# Altium schematic symbol library T8_devkit_PCB_1.SCHLIB: 83 symbols (part 1 of 2)
Pins are listed as number, name and electrical type; pins without a type are passive.

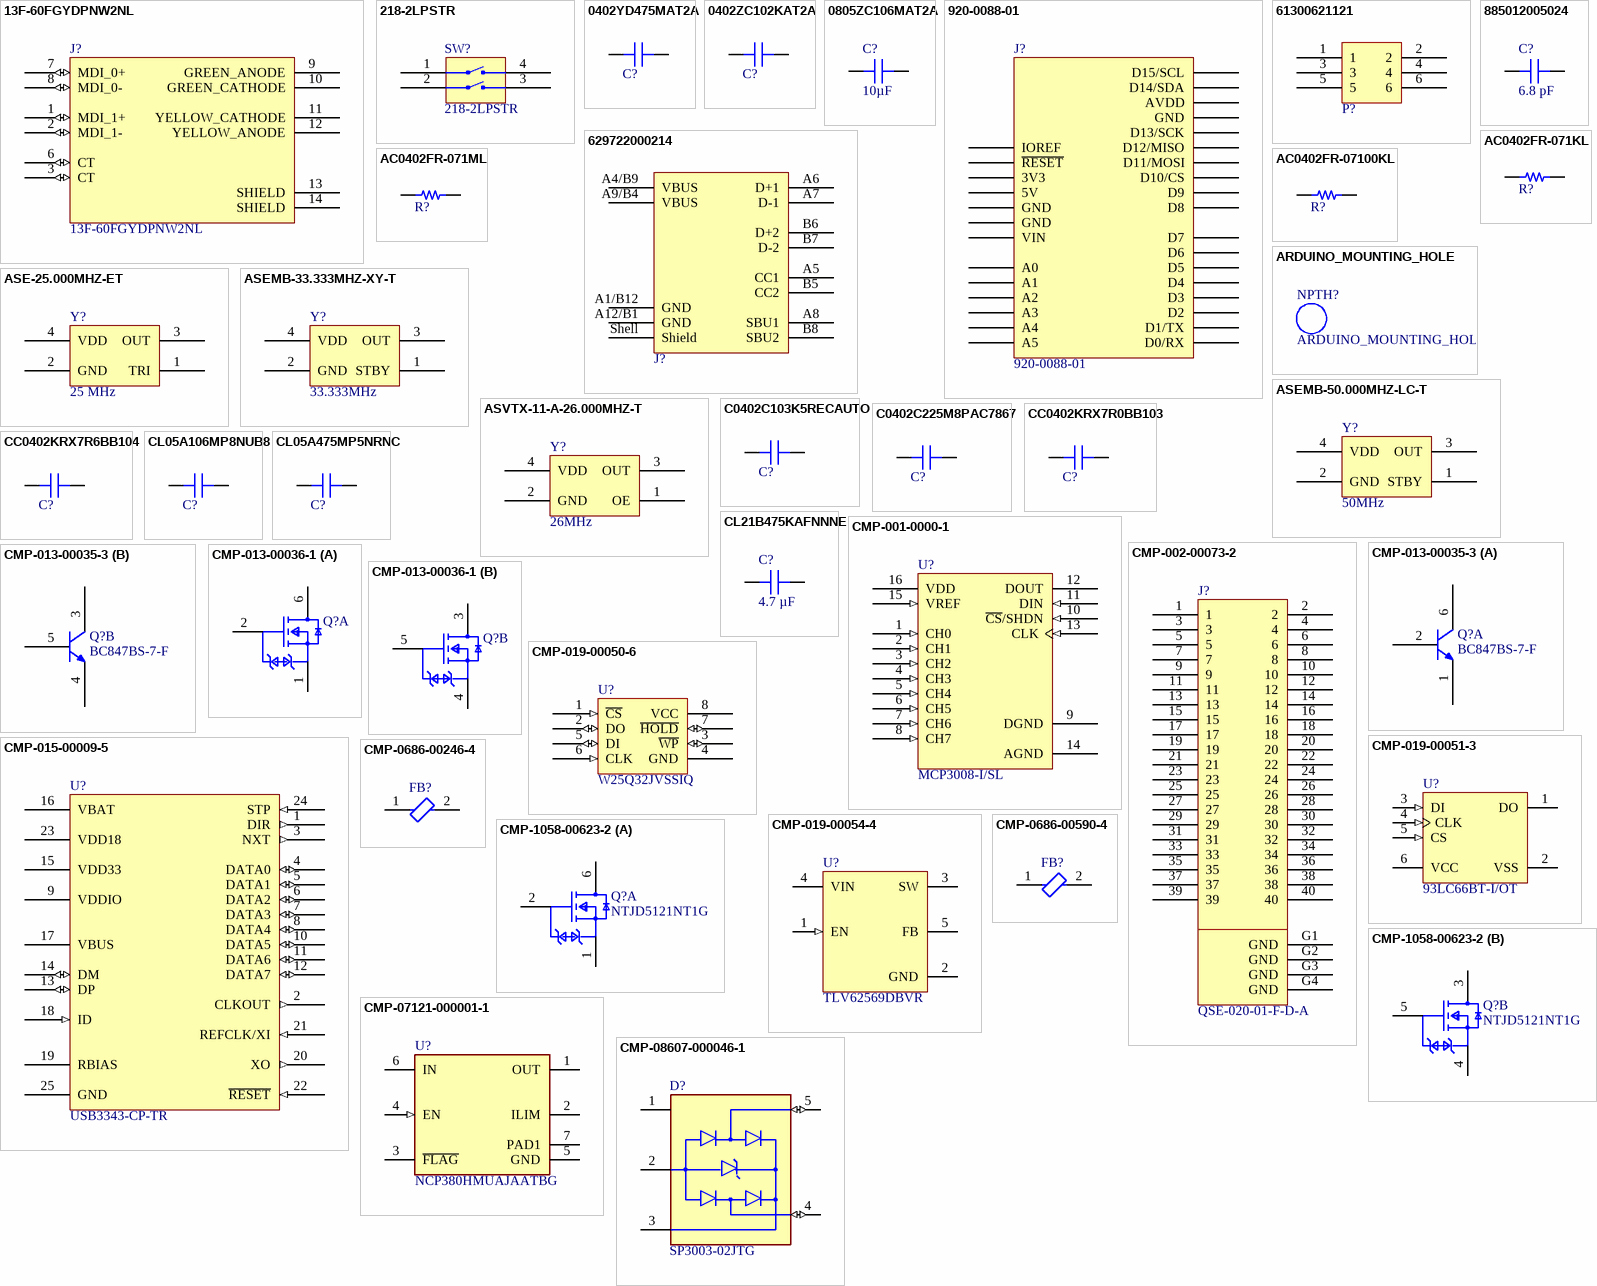
[diagram p0: symbols 13F-60FGYDPNW2NL to CMP-08607-000046-1]

## 13F-60FGYDPNW2NL
designator J?
RJ45 RJReceptacle 1 Internal oscillator included  WithLED Plugin  Ethernet Connectors/Modular Connectors (RJ45 RJ11) ROHS; Manufacturer: Shanghai YDS Tech; Number of Ports: 1; Manufacturer Part Number: 13F-60FGYDPNW2NL; LCSC Part Number: C115955; Package: Plugin; ComponentLink1Description: Datasheet; ComponentLink1URL: https://datasheet.lcsc.com/lcsc/1811141132_Shanghai-YDS-Tech-13F-60FGYDPNW2NL_C115955.pdf; ComponentLink2Description: LCSC Link; ComponentLink2URL: https://www.lcsc.com/product-detail/Ethernet-Connectors-Modular-Connectors-RJ45-RJ11_Shanghai-YDS-Tech-13F-60FGYDPNW2NL_C115955.html; USOC Codes: RJ45; Connector Type: RJReceptacle; Ratings: -; LED: WithLED
footprint RJ4516.26X21.59X13.84 (RJ45 ETHERNET CONNECTOR 16.26X21.59X13.84)
pins: 1 MDI_1+ (io), 2 MDI_1- (io), 3 CT (io), 6 CT (io), 7 MDI_0+ (io), 8 MDI_0- (io), 9 GREEN_ANODE (power), 10 GREEN_CATHODE (power), 11 YELLOW_CATHODE (power), 12 YELLOW_ANODE (power), 13 SHIELD, 14 SHIELD

## 218-2LPSTR
designator SW?
SWITCH SLIDE DIP SPST 25MA 24V; Manufacturer: CTS Electrocomponents; Actuator Level: Flush, Recessed; Actuator Type: Slide (Standard); Number of Positions: 2; Pitch: 0.050" (1.27mm), Half; Voltage Rating: 24VDC; Washable: Yes; Part Number: 218-2LPSTR; Circuit: SPST; ComponentLink1Description: Datasheet; ComponentLink1URL: https://www.ctscorp.com/wp-content/uploads/218.pdf; ComponentLink2Description: DigiKey Link; ComponentLink2URL: http://digikey.com/product-detail/en/cts-electrocomponents/218-2LPSTR/CT3108CT-ND/5875762; Contact Finish: Gold; Contact Material: Beryllium Copper; Current Rating (Amps): 25mA; Features: Epoxy Sealed Terminals, Tape Seal; Height Above Board: 0.104" (2.65mm); LastUpdated: 04/01/2020 18:51:31; Lifecycle Status: Active; Minimum Order: 1; Mounting Type: Surface Mount; Operating Temperature: -55°C ~ 85°C; Packaging: ReReel; PartId: 8; Part Status: Active; Price: 0.00; Series: 218; Supplier 1: DigiKey; Supplier Part Number 1: CT3108CT-ND; Termination Style: Gull Wing
footprint CTS 218-2LPJ
pins: 1 GND, 2 GND, 3 GND, 4 GND

## 0402YD475MAT2A
designator C?, comment 4.7µF  (value not drawn)
CAP CER 4.7UF 16V X5R 0402; Part Number: 0402YD475MAT2A; manufacturer: AVX Corporation; Tolerance: ±20%; Value: 4.7µF; Applications: General Purpose; Capacitance: 4.7µF; componentlink1description: Datasheet; componentlink1url: http://datasheets.avx.com/cx5r.pdf; componentlink2description: DigiKey Link; componentlink2url: http://digikey.com/product-detail/en/avx-corporation/0402YD475MAT2A/478-10788-1-ND/7536324; Device Package: 0402 (1005 Metric); lastupdated: 08/02/2022 12:26:39; Lifecycle Status: Active; Minimum Order: 1; Mounting Type: Surface Mount, MLCC; Operating Temperature: -55°C ~ 85°C; Package / Case: 0402 (1005 Metric); packaging: TapeAndReel; partid: 12460; Part Status: Active; price: 0.06; series: -; Size / Dimension: 0.039" L x 0.020" W (1.00mm x 0.50mm); Supplier 1: DigiKey; Supplier Part Number 1: 478-10788-1-ND; Temperature Coefficient: X5R; Thickness (Max): 0.028" (0.71mm); Voltage - Rated: 16V
footprint CAP 0402_1005
pins: 1, 2

## 0402ZC102KAT2A
designator C?, comment 1000pF  (value not drawn)
CAP CER 1000PF 10V X7R 0402; Part Number: 0402ZC102KAT2A; manufacturer: AVX Corporation; Tolerance: ±10%; Value: 1000pF; Applications: General Purpose; Capacitance: 1000pF; componentlink1description: Datasheet; componentlink1url: http://datasheets.avx.com/X7RDielectric.pdf; componentlink2description: DigiKey Link; componentlink2url: http://digikey.com/product-detail/en/avx-corporation/0402ZC102KAT2A/478-12663-1-ND/9949195; Device Package: 0402 (1005 Metric); lastupdated: 08/02/2022 12:26:49; Lifecycle Status: Active; Minimum Order: 1; Mounting Type: Surface Mount, MLCC; Operating Temperature: -55°C ~ 125°C; Package / Case: 0402 (1005 Metric); packaging: TapeAndReel; partid: 7830; Part Status: Active; price: 0.01; series: -; Size / Dimension: 0.039" L x 0.020" W (1.00mm x 0.50mm); Supplier 1: DigiKey; Supplier Part Number 1: 478-12663-1-ND; Temperature Coefficient: X7R; Thickness (Max): 0.022" (0.56mm); Voltage - Rated: 10V
footprint CAP 0402_1005
pins: 1, 2

## 0805ZC106MAT2A
designator C?, comment 10µF
CAP CER 10UF 10V X7R 0805; Part Number: 0805ZC106MAT2A; manufacturer: AVX Corporation; Tolerance: ±20%; Value: 10µF; Applications: General Purpose; Capacitance: 10µF; componentlink1description: Datasheet; componentlink1url: http://datasheets.avx.com/X7RDielectric.pdf; componentlink2description: DigiKey Link; componentlink2url: http://digikey.com/product-detail/en/avx-corporation/0805ZC106MAT2A/478-11397-1-ND/8019148; Device Package: 0805 (2012 Metric); lastupdated: 02/09/2020 01:04:12; Lifecycle Status: Active; Minimum Order: 1; Mounting Type: Surface Mount, MLCC; Operating Temperature: -55°C ~ 125°C; Package / Case: 0805 (2012 Metric); packaging: CutTape; partid: 16649; Part Status: Active; price: 0.85; series: -; Size / Dimension: 0.079" L x 0.049" W (2.00mm x 1.25mm); Supplier 1: DigiKey; Supplier Part Number 1: 478-11397-1-ND; Temperature Coefficient: X7R; Thickness (Max): 0.060" (1.52mm); Voltage - Rated: 10V
footprint CAP 0805_2012
pins: 1, 2

## 920-0088-01
designator J?
CONN HDR 8/10P 0.1 GOLD PCB 6PC; Manufacturer: Schmartboard, Inc.; Connector Type: Header; Contact Length - Post: 0.413" (10.50mm); Number of Positions: 6, 8, 10; Number of Positions Loaded: All; Pitch - Mating: 0.100" (2.54mm); Style: Board to Board; Part Number: 920-0088-01; ComponentLink1Description: Datasheet; ComponentLink1URL: http://schmartboard.com/content/Brochures/920-0088-01.pdf; ComponentLink2Description: DigiKey Link; ComponentLink2URL: http://digikey.com/product-detail/en/schmartboard-inc/920-0088-01/1988-1036-ND/9559319; Contact Finish - Mating: Gold; Contact Finish - Post: Gold; Contact Type: Female Socket; Fastening Type: Push-Pull; Insulation Color: Black; Insulation Height: 0.335" (8.51mm); LastUpdated: 31/01/2020 20:49:58; Lifecycle Status: Active; Minimum Order: 1; Mounting Type: Through Hole; Number of Rows: 1; Packaging: Bulk; Part Status: Active; Price: 5.00; Series: -; Supplier 1: DigiKey; Supplier Part Number 1: 1988-1036-ND; Termination: Solder
footprint SCHMARTBOARD - 920-0088-01
pins: 2 IOREF, 3 ~{RESET}, 4 3V3, 5 5V, 6 GND, 7 GND, 8 VIN, 9 A0, 10 A1, 11 A2, 12 A3, 13 A4, 14 A5, 15 D0/RX, 16 D1/TX, 17 D2, 18 D3, 19 D4, 20 D5, 21 D6, 22 D7, 23 D8, 24 D9, 25 D10/CS, 26 D11/MOSI, 27 D12/MISO, 28 D13/SCK, 29 GND, 30 AVDD, 31 D14/SDA, 32 D15/SCL

## 61300621121
designator P?  (value not drawn)
WR-PHD Pin Header, THT, Vertical, pitch 2.54mm, 2 Row, 6P; Manufacturer: Wurth Elektronik; Contact Resistance: 20mΩ; Rated Current: 3A; Working Voltage: 250V; Withstanding Voltage: 500V; ComponentLink1Description: Website Link; ComponentLink1URL: https://www.we-online.com/redexpert/article/61300621121?ad; ComponentLink2Description: Datasheet Link; ComponentLink2URL: https://www.we-online.com/redexpert/spec/61300621121?ad; Manufacturer Part Number: 61300621121; Category: Board-to-Board Connectors; Match Code: WR-PHD; Mount: Through Hole; Operating Temperature Max: 105°C; Operating Temperature Min: -40°C; Packaging: Bag; Gender: Pin Header; Number of Pins: 6; Number of Rows: 2; Orientation: Vertical; Pitch: 2.54mm
footprint 61300621121
pins: 1, 2, 3, 4, 5, 6

## 629722000214
designator J?  (value not drawn)
WR-USB 2.0 Type C, Receptacle, Horizontal, SMT; Manufacturer: Wurth Elektronik; Interface Type: Type C; Number of Ports: 1; Rated Current: 5A; Working Voltage: 20VAC; ComponentLink1Description: Website Link; ComponentLink1URL: https://www.we-online.com/redexpert/article/629722000214?ad; ComponentLink2Description: Datasheet Link; ComponentLink2URL: https://www.we-online.com/redexpert/spec/629722000214?ad; Manufacturer Part Number: 629722000214; Category: Input/Output Connectors; Match Code: WR-USB; Mount: Surface Mount; Operating Temperature Max: 85°C; Operating Temperature Min: -40°C; Packaging: Tape and Reel; Application: USB 2.0; Gender: Receptacle; Number of Pins: 16; Orientation: Horizontal
footprint 629722000214
pins: A1/B12 GND, A4/B9 VBUS, A5 CC1, A6 D+1, A7 D-1, A8 SBU1, A9/B4 VBUS, A12/B1 GND, B5 CC2, B6 D+2, B7 D-2, B8 SBU2, Shell Shield

## 885012005024
designator C?, comment 6.8 pF
CAP CER 6.8PF 16V C0G/NP0 0402; Part Number: 885012005024; manufacturer: Würth Elektronik; Temperature Coefficient: C0G, NP0; Tolerance: ±0.5pF; Value: 6.8 pF; Applications: General Purpose; Capacitance: 6.8 pF; componentlink1description: Datasheet; componentlink1url: https://katalog.we-online.de/pbs/datasheet/885012005024.pdf; componentlink2description: DigiKey Link; componentlink2url: https://www.digikey.com/en/products/detail/würth-elektronik/885012005024/5453295; Device Package: 0402 (1005 Metric); lastupdated: 19/09/2022 12:57:16; Lifecycle Status: Active; Minimum Order: 1; Mounting Type: Surface Mount, MLCC; Operating Temperature: -55°C ~ 125°C; Package / Case: 0402 (1005 Metric); packaging: TapeAndReel; partid: 8046; Part Status: Active; price: 0.01; series: WCAP-CSGP; Size / Dimension: 0.039" L x 0.020" W (1.00mm x 0.50mm); Supplier 1: DigiKey; Supplier Part Number 1: 732-7440-1-ND; Thickness (Max): 0.022" (0.55mm); Voltage - Rated: 16V
footprint CAP 0402_1005
pins: 1, 2

## AC0402FR-071KL
designator R?, comment 1 kOhms  (value not drawn)
RES SMD 1K OHM 1% 1/16W 0402; Part Number: AC0402FR-071KL; Manufacturer: Yageo; Power (Watts): 0.063W, 1/16W; Temperature Coefficient: ±100ppm/°C; Value: 1 kOhms; ComponentLink1Description: Datasheet; ComponentLink1URL: https://www.yageo.com/upload/media/product/productsearch/datasheet/rchip/PYu-AC_51_RoHS_L_7.pdf; ComponentLink2Description: DigiKey Link; ComponentLink2URL: https://www.digikey.com/en/products/detail/yageo/AC0402FR-071KL/2827801; Composition: Thick Film; Device Package: 0402 (1005 Metric); Features: Automotive AEC-Q200, Moisture Resistant; Height - Seated (Max): 0.015" (0.37mm); LastUpdated: 19/09/2022 13:14:31; Lifecycle Status: Active; Minimum Order: 1; Number of Terminations: 2; Operating Temperature: -55°C ~ 155°C; Package / Case: 0402 (1005 Metric); Packaging: CutTape; PartId: 12037; Part Status: Active; Price: 0.01; Ratings: AEC-Q200; Resistance: 1 kOhms; Series: AC; Size / Dimension: 0.039" L x 0.020" W (1.00mm x 0.50mm); Supplier 1: DigiKey; Supplier Part Number 1: 311-1KLBCT-ND; Supplier Device Package: 0402; Tolerance: ±1%
footprint RES 0402_1005
pins: 1, 2

## AC0402FR-071ML
designator R?, comment 1 MOhms  (value not drawn)
RES SMD 1M OHM 1% 1/16W 0402; Part Number: AC0402FR-071ML; Manufacturer: Yageo; Power (Watts): 0.063W, 1/16W; Temperature Coefficient: ±100ppm/°C; Value: 1 MOhms; ComponentLink1Description: Datasheet; ComponentLink1URL: https://www.yageo.com/upload/media/product/productsearch/datasheet/rchip/PYu-AC_51_RoHS_L_7.pdf; ComponentLink2Description: DigiKey Link; ComponentLink2URL: https://www.digikey.com/en/products/detail/yageo/AC0402FR-071ML/5895164; Composition: Thick Film; Device Package: 0402 (1005 Metric); Features: Automotive AEC-Q200, Moisture Resistant; Height - Seated (Max): 0.015" (0.37mm); LastUpdated: 19/09/2022 13:14:31; Lifecycle Status: Active; Minimum Order: 1; Number of Terminations: 2; Operating Temperature: -55°C ~ 155°C; Package / Case: 0402 (1005 Metric); Packaging: CutTape; PartId: 12043; Part Status: Active; Price: 0.01; Ratings: AEC-Q200; Resistance: 1 MOhms; Series: AC; Size / Dimension: 0.039" L x 0.020" W (1.00mm x 0.50mm); Supplier 1: DigiKey; Supplier Part Number 1: YAG3450CT-ND; Supplier Device Package: 0402; Tolerance: ±1%
footprint RES 0402_1005
pins: 1, 2

## AC0402FR-07100KL
designator R?, comment 100 kOhms  (value not drawn)
RES SMD 100K OHM 1% 1/16W 0402; Part Number: AC0402FR-07100KL; Manufacturer: Yageo; Power (Watts): 0.063W, 1/16W; Temperature Coefficient: ±100ppm/°C; Value: 100 kOhms; ComponentLink1Description: Datasheet; ComponentLink1URL: https://www.yageo.com/upload/media/product/productsearch/datasheet/rchip/PYu-AC_51_RoHS_L_7.pdf; ComponentLink2Description: DigiKey Link; ComponentLink2URL: https://www.digikey.com/en/products/detail/yageo/AC0402FR-07100KL/5895021; Composition: Thick Film; Device Package: 0402 (1005 Metric); Features: Automotive AEC-Q200, Moisture Resistant; Height - Seated (Max): 0.015" (0.37mm); LastUpdated: 19/09/2022 13:14:31; Lifecycle Status: Active; Minimum Order: 1; Number of Terminations: 2; Operating Temperature: -55°C ~ 155°C; Package / Case: 0402 (1005 Metric); Packaging: CutTape; PartId: 12047; Part Status: Active; Price: 0.01; Ratings: AEC-Q200; Resistance: 100 kOhms; Series: AC; Size / Dimension: 0.039" L x 0.020" W (1.00mm x 0.50mm); Supplier 1: DigiKey; Supplier Part Number 1: YAG3434CT-ND; Supplier Device Package: 0402; Tolerance: ±1%
footprint RES 0402_1005
pins: 1, 2

## ARDUINO_MOUNTING_HOLE
designator NPTH?  (no BOM)
footprint ARDUINO_MOUNTING_HOLE

## ASE-25.000MHZ-ET
designator Y?, comment 25 MHz
XTAL OSC XO 25.0000MHZ CMOS SMD; Part Number: ASE-25.000MHZ-ET; Manufacturer: Abracon LLC; Base Resonator: Crystal; Current - Supply (Max): 13mA; Frequency Stability: ±100ppm; Function: Enable/Disable; Voltage - Supply: 3.3V; ComponentLink1Description: Datasheet; ComponentLink1URL: https://abracon.com/Oscillators/ASEseries.pdf; ComponentLink2Description: DigiKey Link; ComponentLink2URL: https://www.digikey.com/en/products/detail/abracon-llc/ASE-25-000MHZ-ET/2001354; Frequency: 25 MHz; Height - Seated (Max): 0.047" (1.20mm); LastUpdated: 19/09/2022 13:51:44; Lifecycle Status: Active; Minimum Order: 1; Mounting Type: Surface Mount; Operating Temperature: -20°C ~ 70°C; Output: CMOS; Package / Case: 4-SMD, No Lead; Packaging: TapeAndReel; PartId: 149; Part Status: Active; Price: 0.88; Series: ASE; Size / Dimension: 0.126" L x 0.098" W (3.20mm x 2.50mm); Supplier 1: DigiKey; Supplier Part Number 1: 535-9987-1-ND; Type: XO (Standard); Value: 25 MHz
footprint ABRACON ASE
pins: 1 TRI, 2 GND, 3 OUT, 4 VDD

## ASEMB-33.333MHZ-XY-T
designator Y?, comment 33.333MHz
MEMS OSC XO 33.3330MHZ CMOS SMD; Part Number: ASEMB-33.333MHZ-XY-T; Manufacturer: Abracon LLC; Current - Supply (Max): 16mA; Frequency Stability: ±10ppm; Function: Standby (Power Down); Voltage - Supply: 1.8V ~ 3.3V; Base Resonator: MEMS; ComponentLink1Description: Datasheet; ComponentLink1URL: https://abracon.com/Oscillators/ASEMB.pdf; ComponentLink2Description: DigiKey Link; ComponentLink2URL: http://digikey.com/product-detail/en/abracon-llc/ASEMB-33.333MHZ-XY-T/535-11111-1-ND/2624365; Frequency: 33.333MHz; Height - Seated (Max): 0.035" (0.90mm); LastUpdated: 19/09/2022 13:51:46; Lifecycle Status: Active; Minimum Order: 1; Mounting Type: Surface Mount; Operating Temperature: -40°C ~ 105°C; Output: CMOS; Package / Case: 4-SMD, No Lead; Packaging: TapeAndReel; PartId: 186; Part Status: Active; Price: 1.73; Series: ASEMB, Pure Silicon™; Size / Dimension: 0.126" L x 0.098" W (3.20mm x 2.50mm); Supplier 1: DigiKey; Supplier Part Number 1: 535-11111-1-ND; Type: XO (Standard); Value: 33.333MHz
footprint ABRACON ASEMB
pins: 1 STBY, 2 GND, 3 OUT, 4 VDD

## ASEMB-50.000MHZ-LC-T
designator Y?, comment 50MHz
MEMS OSC XO 50.0000MHZ CMOS SMD; Part Number: ASEMB-50.000MHZ-LC-T; Manufacturer: Abracon LLC; Current - Supply (Max): 16mA; Frequency Stability: ±50ppm; Function: Enable/Disable; Voltage - Supply: 1.8V ~ 3.3V; Base Resonator: MEMS; ComponentLink1Description: Datasheet; ComponentLink1URL: https://abracon.com/Oscillators/ASEMB.pdf; ComponentLink2Description: DigiKey Link; ComponentLink2URL: http://digikey.com/product-detail/en/abracon-llc/ASEMB-50.000MHZ-LC-T/535-11758-1-ND/2810027; Frequency: 50MHz; Height - Seated (Max): 0.035" (0.90mm); LastUpdated: 19/09/2022 13:51:46; Lifecycle Status: Active; Minimum Order: 1; Mounting Type: Surface Mount; Operating Temperature: -40°C ~ 85°C; Output: CMOS; Package / Case: 4-SMD, No Lead; Packaging: TapeAndReel; PartId: 198; Part Status: Active; Price: 1.25; Series: ASEMB, Pure Silicon™; Size / Dimension: 0.126" L x 0.098" W (3.20mm x 2.50mm); Supplier 1: DigiKey; Supplier Part Number 1: 535-11758-1-ND; Type: XO (Standard); Value: 50MHz
footprint ABRACON ASEMB
pins: 1 STBY, 2 GND, 3 OUT, 4 VDD

## ASVTX-11-A-26.000MHZ-T
designator Y?, comment 26MHz
XTAL OSC VCTCXO 26.0000MHZ SNWV; Part Number: ASVTX-11-A-26.000MHZ-T; Manufacturer: Abracon LLC; Base Resonator: Crystal; Current - Supply (Max): 2mA; Frequency Stability: ±2.5ppm; Output: Clipped Sine Wave; Voltage - Supply: 3V; ComponentLink1Description: Datasheet; ComponentLink1URL: https://abracon.com/Oscillators/ASTX11_ASVTX11.pdf; ComponentLink2Description: DigiKey Link; ComponentLink2URL: http://digikey.com/product-detail/en/abracon-llc/ASVTX-11-A-26.000MHZ-T/535-9619-1-ND/1237086; Frequency: 26MHz; Height - Seated (Max): 0.039" (1.00mm); LastUpdated: 19/09/2022 13:51:47; Lifecycle Status: Active; Minimum Order: 1; Mounting Type: Surface Mount; Operating Temperature: -30°C ~ 75°C; Package / Case: 6-SMD, No Lead; Packaging: TapeAndReel; PartId: 249; Part Status: Active; Price: 2.37; Series: ASVTX-11; Size / Dimension: 0.126" L x 0.098" W (3.20mm x 2.50mm); Supplier 1: DigiKey; Supplier Part Number 1: 535-9619-1-ND; Type: VCTCXO; Value: 26MHz
footprint ABRACON ASVTX-11
pins: 1 OE, 2 GND, 3 OUT, 4 VDD

## C0402C103K5RECAUTO
designator C?, comment 10000 pF  (value not drawn)
CAP CER 0402 10NF 50V X7R 10%; Part Number: C0402C103K5RECAUTO; manufacturer: KEMET; Value: 10000 pF; Applications: Automotive, ESD Protection; Capacitance: 10000 pF; componentlink1description: Datasheet; componentlink1url: https://api.kemet.com/component-edge/download/datasheet/C0402C103K5RECAUTO.pdf; componentlink2description: DigiKey Link; componentlink2url: https://www.digikey.com/en/products/detail/kemet/C0402C103K5RECAUTO/8646477; Device Package: 0402 (1005 Metric); lastupdated: 19/09/2022 12:56:43; Lifecycle Status: Active; Minimum Order: 1; Mounting Type: Surface Mount, MLCC; Operating Temperature: -55°C ~ 125°C; Package / Case: 0402 (1005 Metric); packaging: TapeAndReel; partid: 38916; Part Status: Active; price: 0.01; Ratings: AEC-Q200; series: ESD SMD Auto X7R; Size / Dimension: 0.039" L x 0.020" W (1.00mm x 0.50mm); Supplier 1: DigiKey; Supplier Part Number 1: 399-C0402C103K5RECAUTOCT-ND; Temperature Coefficient: X7R; Thickness (Max): 0.022" (0.55mm); Tolerance: ±10%; Voltage - Rated: 50V
footprint CAP 0402_1005
pins: 1, 2

## C0402C225M8PAC7867
designator C?, comment 2.2 µF  (value not drawn)
CAP CER 2.2UF 10V X5R 0402; Part Number: C0402C225M8PAC7867; manufacturer: KEMET; Tolerance: ±20%; Value: 2.2 µF; Applications: Bypass, Decoupling; Capacitance: 2.2 µF; componentlink1description: Datasheet; componentlink1url: https://connect.kemet.com:7667/gateway/IntelliData-ComponentDocumentation/1.0/download/datasheet/C0402C225M8PACTU; componentlink2description: DigiKey Link; componentlink2url: https://www.digikey.com/en/products/detail/kemet/C0402C225M8PAC7867/3317581; Device Package: 0402 (1005 Metric); lastupdated: 19/09/2022 12:56:38; Lifecycle Status: Active; Minimum Order: 1; Mounting Type: Surface Mount, MLCC; Operating Temperature: -55°C ~ 85°C; Package / Case: 0402 (1005 Metric); packaging: TapeAndReel; partid: 44976; Part Status: Active; price: 0.02; series: SMD Comm X5R; Size / Dimension: 0.039" L x 0.020" W (1.00mm x 0.50mm); Supplier 1: DigiKey; Supplier Part Number 1: 399-C0402C225M8PAC7867CT-ND; Temperature Coefficient: X5R; Thickness (Max): 0.022" (0.55mm); Voltage - Rated: 10V
footprint CAP 0402_1005
pins: 1, 2

## CC0402KRX7R0BB103
designator C?, comment 10000 pF  (value not drawn)
CAP CER 10000PF 100V X7R 0402; Part Number: CC0402KRX7R0BB103; manufacturer: Yageo; Tolerance: ±10%; Value: 10000 pF; Applications: General Purpose; Capacitance: 10000 pF; componentlink1description: Datasheet; componentlink1url: https://www.yageo.com/upload/media/product/productsearch/datasheet/mlcc/UPY-NP0X7R_MV_100-to-630V_24.pdf; componentlink2description: DigiKey Link; componentlink2url: https://www.digikey.com/en/products/detail/yageo/CC0402KRX7R0BB103/11489823; Device Package: 0402 (1005 Metric); lastupdated: 19/09/2022 12:56:51; Lifecycle Status: Active; Minimum Order: 1; Mounting Type: Surface Mount, MLCC; Operating Temperature: -55°C ~ 125°C; Package / Case: 0402 (1005 Metric); packaging: TapeAndReel; partid: 33421; Part Status: Active; price: 0.01; series: CC; Size / Dimension: 0.039" L x 0.020" W (1.00mm x 0.50mm); Supplier 1: DigiKey; Supplier Part Number 1: 13-CC0402KRX7R0BB103CT-ND; Temperature Coefficient: X7R; Thickness (Max): 0.022" (0.55mm); Voltage - Rated: 100V
footprint CAP 0402_1005
pins: 1, 2

## CC0402KRX7R6BB104
designator C?, comment 0.1 µF  (value not drawn)
CAP CER 0.1UF 10V X7R 0402; Part Number: CC0402KRX7R6BB104; manufacturer: Yageo; Tolerance: ±10%; Value: 0.1 µF; Applications: General Purpose; Capacitance: 0.1 µF; componentlink1description: Datasheet; componentlink1url: https://www.yageo.com/upload/media/product/productsearch/datasheet/mlcc/UPY-GPHC_X7R_6.3V-to-50V_18.pdf; componentlink2description: DigiKey Link; componentlink2url: https://www.digikey.com/en/products/detail/yageo/CC0402KRX7R6BB104/2103083; Device Package: 0402 (1005 Metric); lastupdated: 19/09/2022 12:57:28; Lifecycle Status: Active; Minimum Order: 1; Mounting Type: Surface Mount, MLCC; Operating Temperature: -55°C ~ 125°C; Package / Case: 0402 (1005 Metric); packaging: CutTape; partid: 3877; Part Status: Active; price: 0.01; series: CC; Size / Dimension: 0.039" L x 0.020" W (1.00mm x 0.50mm); Supplier 1: DigiKey; Supplier Part Number 1: 311-1345-1-ND; Temperature Coefficient: X7R; Thickness (Max): 0.022" (0.55mm); Voltage - Rated: 10V
footprint CAP 0402_1005
pins: 1, 2

## CL05A106MP8NUB8
designator C?, comment 10 µF  (value not drawn)
CAP CER 10UF 10V X5R 0402; Part Number: CL05A106MP8NUB8; manufacturer: Samsung Electro-Mechanics; Tolerance: ±20%; Value: 10 µF; Applications: General Purpose; Capacitance: 10 µF; componentlink1description: Datasheet; componentlink1url: http://www.samsungsem.com/kr/support/product-search/mlcc/CL05A106MP8NUB8.jsp; componentlink2description: DigiKey Link; componentlink2url: https://www.digikey.com/en/products/detail/samsung-electro-mechanics/CL05A106MP8NUB8/5961314; Device Package: 0402 (1005 Metric); lastupdated: 19/09/2022 12:57:36; Lifecycle Status: Active; Minimum Order: 1; Mounting Type: Surface Mount, MLCC; Operating Temperature: -55°C ~ 85°C; Package / Case: 0402 (1005 Metric); packaging: TapeAndReel; partid: 1758; Part Status: Active; price: 0.06; series: CL; Size / Dimension: 0.039" L x 0.020" W (1.00mm x 0.50mm); Supplier 1: DigiKey; Supplier Part Number 1: 1276-6830-1-ND; Temperature Coefficient: X5R; Thickness (Max): 0.035" (0.90mm); Voltage - Rated: 10V
footprint CAP 0402_1005
pins: 1, 2

## CL05A475MP5NRNC
designator C?, comment 4.7 µF  (value not drawn)
CAP CER 4.7UF 10V X5R 0402; Part Number: CL05A475MP5NRNC; manufacturer: Samsung Electro-Mechanics; Tolerance: ±20%; Value: 4.7 µF; Applications: General Purpose; Capacitance: 4.7 µF; componentlink1description: Datasheet; componentlink1url: http://www.samsungsem.com/kr/support/product-search/mlcc/CL05A475MP5NRNC.jsp; componentlink2description: DigiKey Link; componentlink2url: https://www.digikey.com/en/products/detail/samsung-electro-mechanics/CL05A475MP5NRNC/3887140; Device Package: 0402 (1005 Metric); lastupdated: 19/09/2022 12:57:17; Lifecycle Status: Active; Minimum Order: 1; Mounting Type: Surface Mount, MLCC; Operating Temperature: -55°C ~ 85°C; Package / Case: 0402 (1005 Metric); packaging: TapeAndReel; partid: 7650; Part Status: Active; price: 0.01; series: CL; Size / Dimension: 0.039" L x 0.020" W (1.00mm x 0.50mm); Supplier 1: DigiKey; Supplier Part Number 1: 1276-1482-1-ND; Temperature Coefficient: X5R; Thickness (Max): 0.022" (0.55mm); Voltage - Rated: 10V
footprint CAP 0402_1005
pins: 1, 2

## CL21B475KAFNNNE
designator C?, comment 4.7 µF
CAP CER 4.7UF 25V X7R 0805; Part Number: CL21B475KAFNNNE; manufacturer: Samsung Electro-Mechanics; Tolerance: ±10%; Value: 4.7 µF; Applications: General Purpose; Capacitance: 4.7 µF; componentlink1description: Datasheet; componentlink1url: http://www.samsungsem.com/kr/support/product-search/mlcc/CL21B475KAFNNNE.jsp; componentlink2description: DigiKey Link; componentlink2url: https://www.digikey.com/en/products/detail/samsung-electro-mechanics/CL21B475KAFNNNE/3888627; Device Package: 0805 (2012 Metric); lastupdated: 19/09/2022 13:04:25; Lifecycle Status: Active; Minimum Order: 1; Mounting Type: Surface Mount, MLCC; Operating Temperature: -55°C ~ 125°C; Package / Case: 0805 (2012 Metric); packaging: TapeAndReel; partid: 3072; Part Status: Active; price: 0.09; series: CL; Size / Dimension: 0.079" L x 0.049" W (2.00mm x 1.25mm); Supplier 1: DigiKey; Supplier Part Number 1: 1276-2969-1-ND; Temperature Coefficient: X7R; Thickness (Max): 0.053" (1.35mm); Voltage - Rated: 25V
footprint CAP 0805_2012
pins: 1, 2

## CMP-001-0000-1
designator U?, comment MCP3008-I/SL
10 Bit Analog to Digital Converter 4, 8 Input 1 SAR 16-SOIC; Manufacturer: Microchip; Manufacturer Part Number: MCP3008-I/SL; Component Type: Integrated Circuits
footprint SOIC-SL16_M (SOIC, 16-Leads, Body 9.9x3.9mm, Pitch 1.27mm, IPC Low Density)
footprint SOIC-SL16_L (SOIC, 16-Leads, Body 9.9x3.9mm, Pitch 1.27mm, IPC High Density)
footprint SOIC-SL16_N (SOIC, 16-Leads, Body 9.9x3.9mm, Pitch 1.27mm, IPC Medium Density)
pins: 1 CH0 (in), 2 CH1 (in), 3 CH2 (in), 4 CH3 (in), 5 CH4 (in), 6 CH5 (in), 7 CH6 (in), 8 CH7 (in), 9 DGND (power), 10 ~{CS}/SHDN (in), 11 DIN (in), 12 DOUT (hiz), 13 CLK (in), 14 AGND (power), 15 VREF (in), 16 VDD (power)

## CMP-002-00073-2
designator J?, comment QSE-020-01-F-D-A
Conn High Speed Socket Strip SKT 40 POS 0.8mm Solder ST SMD Tray; Manufacturer: Samtec; Manufacturer Part Number: QSE-020-01-F-D-A; Component Type: Connectors
footprint QSE-020-01-F-D-A-Footprint-1
pins: 1, 2, 3, 4, 5, 6, 7, 8, 9, 10, 11, 12, 13, 14, 15, 16, 17, 18, 19, 20, 21, 22, 23, 24, 25, 26, 27, 28, 29, 30, 31, 32, 33, 34, 35, 36, 37, 38, 39, 40, G1 GND (power), G2 GND (power), G3 GND (power), G4 GND (power)

## CMP-013-00035-3
designator Q?, comment BC847BS-7-F
2NPN Ic=100mA Vceo=45V hfe=200~450 P=200mW SOT363; Manufacturer: Diodes; Manufacturer Part Number: BC847BS-7-F; Component Type: Transistors
footprint BC847BS-7-F-Footprint-1
part A pins: 1 Emitter, 2 Base, 6 Collector
part B pins: 3 Collector, 4 Emitter, 5 Base

## CMP-013-00036-1
designator Q?, comment NTJD5121NT1G  (value not drawn)
MOSFET 2N-CH 60V 0.295A SOT363; Manufacturer: ON Semiconductor; Manufacturer Part Number: NTJD5121NT1G; Component Type: Transistors
footprint FP-419B-02-IPC_C
footprint FP-419B-02-IPC_B
footprint FP-419B-02-IPC_A
footprint FP-419B-02-MFG
part A pins: 1 S1, 2 G1, 6 D1
part B pins: 3 D2, 4 S2, 5 G2

## CMP-015-00009-5
designator U?, comment USB3343-CP-TR
Vqfn 26Mhz Usb 2.0 Ulpi Phy With Variable I/O Voltage Rohs Compliant: Yes; Manufacturer: Microchip; Manufacturer Part Number: USB3343-CP-TR; Component Type: Interface
footprint FP-C04-208-IPC_B
footprint FP-C04-208-IPC_C
footprint FP-C04-208-MFG
footprint FP-C04-208-IPC_A
pins: 1 DIR (out), 2 CLKOUT (out), 3 NXT (out), 4 DATA0 (io), 5 DATA1 (io), 6 DATA2 (io), 7 DATA3 (io), 8 DATA4 (io), 9 VDDIO (power), 10 DATA5 (io), 11 DATA6 (io), 12 DATA7 (io), 13 DP (io), 14 DM (io), 15 VDD33 (power), 16 VBAT (power), 17 VBUS (power), 18 ID (in), 19 RBIAS, 20 XO (out), 21 REFCLK/XI (in), 22 ~{RESET} (in), 23 VDD18 (power), 24 STP (in), 25 GND (power)

## CMP-019-00050-6
designator U?, comment W25Q32JVSSIQ
NOR Flash Serial (SPI, Dual SPI, Quad SPI) 3V/3.3V 32M-bit 4M x 8 6ns 8-Pin SOIC T/R; Manufacturer: Winbond; Manufacturer Part Number: W25Q32JVSSIQ TR; Component Type: Memory
footprint SOIC127P790X216-8N (SOIC, 8-Leads, Body 5.28x5.28mm, Pitch 1.27mm, IPC Medium Density)
pins: 1 ~{CS} (in), 2 DO (io), 3 ~{WP} (io), 4 GND (power), 5 DI (io), 6 CLK (in), 7 ~{HOLD} (io), 8 VCC (power)

## CMP-019-00051-3
designator U?, comment 93LC66BT-I/OT
Microwire Serial EEPROM Family, 2.5Vto 5.5V' 2 MHz, -40°Cto 125°C, SOT-23-6, RoHS; Manufacturer: Microchip; Manufacturer Part Number: 93LC66BT-I/OT; Component Type: Memory
footprint SOT-23-OT6_L (SOT23, 6-Leads, Body 2.9x1.7mm, Pitch 0.95mm, Lead Span 2.8mm, IPC High Density)
footprint SOT-23-OT6_N (SOT23, 6-Leads, Body 2.9x1.7mm, Pitch 0.95mm, Lead Span 2.8mm, IPC Medium Density)
footprint SOT-23-OT6_M (SOT23, 6-Leads, Body 2.9x1.7mm, Pitch 0.95mm, Lead Span 2.8mm, IPC Low Density)
pins: 1 DO (hiz), 2 VSS (power), 3 DI (in), 4 CLK (in), 5 CS (in), 6 VCC (power)

## CMP-019-00054-4
designator U?, comment TLV62569DBVR
Conv DC-DC 2.5V to 5.5V Synchronous Step Down Single-Out 0.6V to 5.5V 2A 5-Pin SOT-23 T/R; Manufacturer: Texas Instruments; Manufacturer Part Number: TLV62569DBVR; Component Type: Power Supply
footprint FP-DBV0005A-IPC_B
footprint FP-DBV0005A-IPC_A
footprint FP-DBV0005A-IPC_C
footprint FP-DBV0005A-MFG
pins: 1 EN (in), 2 GND (power), 3 SW (power), 4 VIN (power), 5 FB

## CMP-0686-00246-4
designator FB?, comment BLM15AX601SN1D  (value not drawn)
Chip Ferrite Bead, 0402, 600Ω @ 100MHz, 0.34Ω, 25%, 500mA; Manufacturer: Murata; Material: Steel; DC Resistance (DCR): 340mR; Impedance: 600R; Number of Circuits: 1; Max Current Rating: 500mA; Core Material: Ferrite; Lead Free: Lead Free; Series: BLM15AX_SN; Number of Pins: 2; Package Quantity: 1; Length: 1mm; Height: 0.5mm; Width: 0.5mm; Packaging: Tape and Reel; RoHS Compliant: Yes; Test Frequency: 100MHz; Case Code (Imperial): 0402; Depth: 0.5mm; Case/Package: 0402; Min Operating Temperature: -55°C; Max Operating Temperature: 125°C; Max DC Current: 500mA; Current Rating: 500mA; REACH SVHC: No SVHC; Termination: SMD/SMT; Tolerance: 25%; Case Code (Metric): 1005; Number of Lines: 1; DC Resistance-Max: 340mR; Manufacturer Part Number: BLM15AX601SN1D
footprint FP-BLM15-0_05-IPC_B
footprint FP-BLM15-0_05-MFG
footprint FP-BLM15-0_05-IPC_C
footprint FP-BLM15-0_05-IPC_A
pins: 1, 2

## CMP-0686-00590-4
designator FB?, comment BLM18PG330SN1D  (value not drawn)
Chip Ferrite Bead, 0603, 33Ω @ 100MHz, 0.025Ω, 25%, 3A; Manufacturer Series: BLM18P; Manufacturer: Murata; Shielding: Unshielded; Number of Functions: 1; Resistance: 25mR; ESR (Equivalent Series Resistance): 33R; Material: Steel; Packaging: Tape and Reel; Test Frequency: 100MHz; Length: 1.6mm; DC Current: 3A; Height: 0.8mm; Current Rating: 3A; Case/Package: 0603; Number of Lines: 1; Lead Free: Lead Free; RoHS Compliant: Yes; Max Current Rating: 3A; Case Code (Metric): 1608; Core Material: Ferrite; REACH SVHC: No SVHC; Min Operating Temperature: -55°C; Number of Pins: 2; DC Resistance (DCR): 25mR; Number of Circuits: 1; Series: BLM18P; Radiation Hardening: No; Max DC Current: 3A; Depth: 0.8mm; Terminal Finish: Tin; Package Quantity: 1; Case Code (Imperial): 0603; Impedance: 33R; Tolerance: 25%; Width: 0.8mm; Termination: SMD/SMT; DC Resistance-Max: 25mR; Max Operating Temperature: 125°C; Manufacturer Part Number: BLM18PG330SN1D
footprint FP-BLM18-0_15-t0_8-d1_2-MFG
footprint FP-BLM18-0_15-t0_8-d1_2-IPC_A
footprint FP-BLM18-0_15-t0_8-d1_2-IPC_C
footprint FP-BLM18-0_15-t0_8-d1_2-IPC_B
pins: 1, 2

## CMP-1058-00623-2
designator Q?, comment NTJD5121NT1G
MOSFET 2N-CH 60V 0.295A SOT363; Manufacturer: On Semiconductor; Number Of N Channels: 2; Turn Off Delay Time: 34ns; Depletion Mode: False; Max Junction Temp: +150°C; Rthja Max: 467°C/W; Threshold Vgs Max: 2.5V; Standoff Height: 0mm; Transconductance: 80S; Pulse Drain Current: 900mA; Max Forward Diode Voltage: 1.2V; Continuous Drain Current: 295mA; Turn On Delay Time: 22ns; Drain To Source Resistance: 1.2Ω; Import Ts: 1521868251; Automotive Grade: NA; Input Capacitace At Vds: 26pF @ 20V; Gate To Source Voltage: 20V; Threshold Vgs Min: 1V; Power Dissipation: 250mW; Gate Charge At Vgs: 0.9nC @ 4.5V; Ciiva Ids: 827192; Typ Forward Diode Voltage: 0.8V; Temperature Range High: +150°C; Category: Trans; Footprint Url: https://www.onsemi.com/pub/Collateral/419B-02.PDF; Device Class L2: Transistors; Number Of Channels: 2; Temperature Range Low: -55°C; Automotive: No; Drain To Source Breakdown Voltage: 60V; Digikey Description: MOSFET 2N-CH 60V 0.295A SOT363; Mouser Description: MOSFET NFET SC88D 60V 295mA; Device Class L1: Discrete Semiconductors; Manufacturer Part Number: NTJD5121NT1G; Lead Free: Yes; Height: 1.1mm; RoHS: TRUE; ComponentLink2Description: Datasheet; ComponentLink2URL: https://www.onsemi.com/pub/Collateral/NTJD5121N-D.PDF; Octopart: https://octopart.com/ntjd5121nt1g-on+semiconductor-10447386; Device Class L3: MOSFETs; Release Date: 1407149971; Package: 419B-02; Drain To Source Voltage: 60V; Temperature: -55°C to +150°C; Manufacturer: ON Semiconductor
footprint FP-419B-02-MFG
footprint FP-419B-02-IPC_C
footprint FP-419B-02-IPC_B
footprint FP-419B-02-IPC_A
part A pins: 1 S1, 2 G1, 6 D1
part B pins: 3 D2, 4 S2, 5 G2

## CMP-07121-000001-1
designator U?, comment NCP380HMUAJAATBG
IC PWR SWITCH P-CHAN 1:1 6UDFN; Manufacturer: ON Semiconductor; Max Power Dissipation: 830mW; Standoff Height: 0mm; Nominal Supply Current: 90uA; Max Supply Voltage: 5.5V; Number Of Outputs: 1; Max Junction Temp: +125°C; Output Current: 0.5-2.1A; Min Supply Voltage: 2.5V; ComponentLink2Description: Datasheet; Device Class L3: unset; Device Class L1: Integrated Circuits (ICs); ComponentLink2URL: https://www.onsemi.com/pub/Collateral/NCP380-D.PDF; Digikey Description: IC PWR SWITCH P-CHAN 1:1 6UDFN; Package: 517AB; Temperature: -40°C to +125°C; RoHS: TRUE; Footprint Url: https://www.onsemi.com/pub/Collateral/517AB.PDF; Automotive: No; Manufacturer Part Number: NCP380HMUAJAATBG; Octopart: https://octopart.com/ncp380hmuajaatbg-on+semiconductor-19977070; Lead Free: Yes; Ambient Temperature Range High: +85°C; Mouser Description: Power Switch ICs - Power Distribution OVER CURRENT PROTECTION; Category: IC; Temperature Range High: +125°C; Device Class L2: Power Management ICs; Ambient Temperature Range Low: -40°C; Height: 0.55mm; Temperature Range Low: -40°C
footprint FP-517AB-MFG
footprint FP-517AB-IPC_C
footprint FP-517AB-IPC_B
footprint FP-517AB-IPC_A
pins: 1 OUT (power), 2 ILIM, 3 ~{FLAG} (oc), 4 EN (in), 5 GND (power), 6 IN (power), 7 PAD1

## CMP-08607-000046-1
designator D?, comment SP3003-02JTG
TVS DIODE 6V 15V SC70-5; Manufacturer: Littelfuse; Number Of Channels: 2; Capacitance: 0.65pF; Automotive Grade: Grade 1; Value: 0.65pF; Direction: Bidirectional; Clamping Voltage: 11.8V; Peak Pulse Current: 2.5A; Standoff Height: 0mm; Temperature Range High: +125°C; Device Class L3: unset; Automotive: Yes; Temperature: -40°C to +125°C; Reverse Standoff Voltage: 6V; Ipc Land Pattern Name: SOT65P220X95-5; Temperature Range Low: -40°C; RoHS: TRUE; Category: Diode; ComponentLink2Description: Datasheet; Package: 0; Device Class L2: TVS Diodes; Lead Free: Yes; Mouser Description: TVS Diodes / ESD Suppressors 2 Ch 8kV 0.65pF SPA; Manufacturer Part Number: SP3003-02JTG; Digikey Description: TVS DIODE 6V 15V SC70-5; Octopart: https://octopart.com/sp3003-02jtg-littelfuse-11540566; Device Class L1: Circuit Protection; ComponentLink2URL: https://www.littelfuse.com/~/media/electronics/datasheets/tvs_diode_arrays/littelfuse_tvs_diode_array_sp3003_datasheet.pdf.pdf; Height: 1.1mm
footprint FP-SP3003-02JTG-MFG
footprint FP-SP3003-02JTG-IPC_C
footprint FP-SP3003-02JTG-IPC_B
footprint FP-SP3003-02JTG-IPC_A
pins: 1 NC, 2 GND (power), 3 VCC (power), 4 I/O2 (io), 5 I/O1 (io)

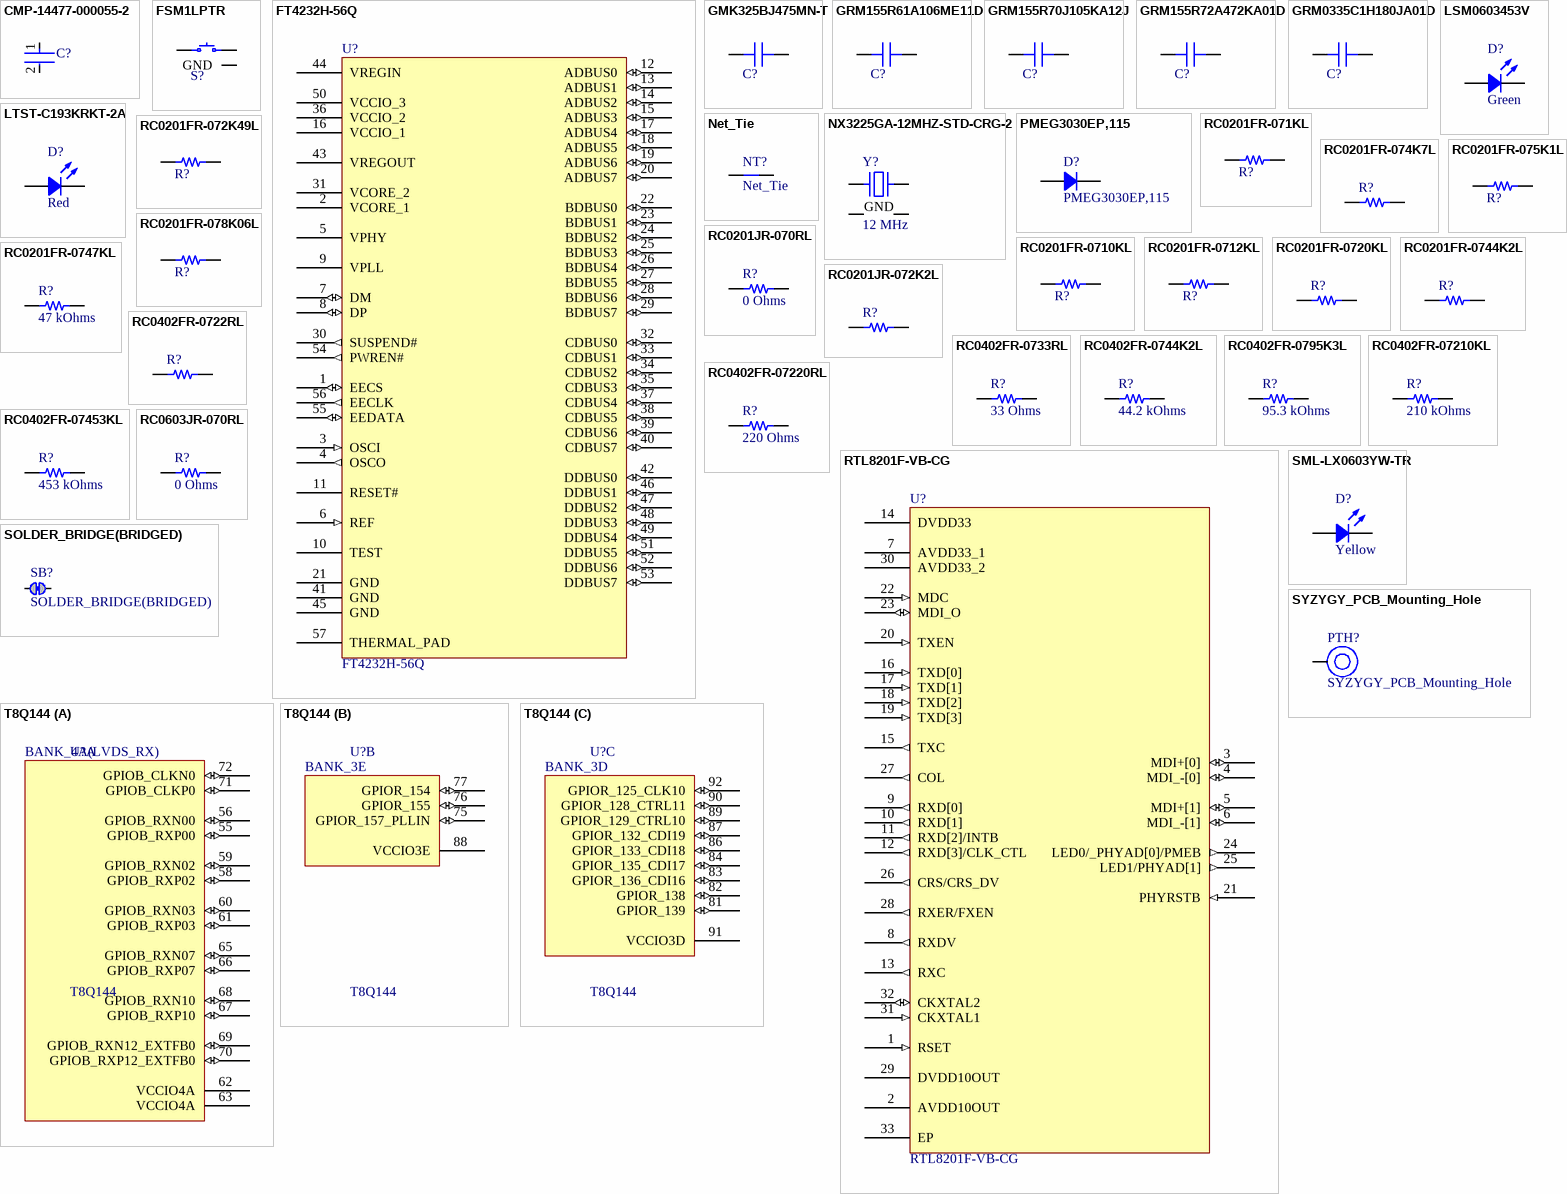
[diagram p1: symbols CMP-14477-000055-2 to T8Q144]

## CMP-14477-000055-2
designator C?, comment EMK105B7104KV-F  (value not drawn)
None; Manufacturer: Taiyo Yuden; Voltage Rating: 16V; Tolerance: 10%; Dielectric: X7R; Capacitance: 100nF; Width: 0.02inch; RoHS Compliant: Yes; Resistor Type: Ceramic; Radiation Hardening: No; Case Code (Imperial): 0402; Height: 0.5mm; Case Code (Metric): 1005; Halogen Free: Halogen Free; Series: M; Thickness: 0.022inch; Case/Package: 0402; Construction: Flat; Mount: Surface Mount; Voltage Rating (DC): 16V; Depth: 0.5mm; Min Operating Temperature: -55°C; Package Quantity: 1; Packaging: Tape and Reel; Termination: SMD/SMT; Length: 1mm; Max Operating Temperature: 125°C; Lead Free: Lead Free; Number of Pins: 2; Manufacturer Part Number: EMK105B7104KV-F
footprint FP-0402-L_1_0_0_05-W_0_5-MFG
footprint FP-0402-L_1_0_0_05-W_0_5-IPC_B
simulation model EMK105B7104_V-F
footprint FP-0402-L_1_0_0_05-W_0_5-IPC_C
footprint FP-0402-L_1_0_0_05-W_0_5-IPC_A
pins: 1, 2

## FSM1LPTR
designator S?  (value not drawn)
SWITCH TACTILE SPST-NO 0.05A 24V; Manufacturer: TE Connectivity ALCOSWITCH Switches; Actuator Height off PCB, Vertical: 3.10mm; Actuator Orientation: Top Actuated; Actuator Type: Standard; Contact Rating @ Voltage: 0.05A @ 24VDC; Illumination: Non-Illuminated; Operating Force: 160gf; Outline: 6.00mm x 6.00mm; Switch Function: Off-Mom; Part Number: FSM1LPTR; Circuit: SPST-NO; ComponentLink1Description: Datasheet; ComponentLink1URL: https://www.te.com/commerce/DocumentDelivery/DDEController?Action=srchrtrv&DocNm=1-1437565-8&DocType=Customer+Drawing&DocLang=English; ComponentLink2Description: DigiKey Link; ComponentLink2URL: http://digikey.com/product-detail/en/te-connectivity-alcoswitch-switches/FSM1LPTR/450-1756-1-ND/2270986; LastUpdated: 04/02/2020 14:40:32; Lifecycle Status: Active; Minimum Order: 1; Mounting Type: Surface Mount; Operating Temperature: -35°C ~ 85°C; Packaging: TapeAndReel; Part Status: Active; Price: 0.34; Series: FSM1LP; Supplier 1: DigiKey; Supplier Part Number 1: 450-1756-1-ND; Termination Style: Gull Wing
footprint TE FSM1LPATR
pins: 1, 2, 3, 4, 5 GND

## FT4232H-56Q
designator U?
USB Bridge, USB to UART,FIFO USB 2.0 FIFO Interface 56-VQFN (8x8); Manufacturer: FTDI, Future Technology Devices International Ltd; Manufacturer Product Number: FT4232H-56Q-REEL; Standards: USB 2.0; Voltage - Supply: 3.3V; Supplier 1: Digi-Key; Supplier Part Number 1: 768-1378-1-ND; Supplier 2: Digi-Key; Supplier Part Number 2: 768-1378-6-ND; Supplier 3: RSComponents; Supplier Part Number 3: 1115836; Series: -; Protocol: USB; Function: Bridge, USB to UART,FIFO; Interface: FIFO; Current - Supply: -; ComponentLink1Description: Datasheet; ComponentLink1URL: https://www.ftdichip.com/Support/Documents/DataSheets/ICs/DS_FT4232H.pdf; ComponentLink2Description: Digi-Key Link; ComponentLink2URL: https://www.digikey.com/en/products/detail/ftdi-future-technology-devices-international-ltd/FT4232H-56Q-REEL/5994692; Operating Temperature: -40°C ~ 85°C; Package / Case: 56-VFQFN Exposed Pad; Supplier Device Package: 56-VQFN (8x8)
footprint QFN50P800X800X100-57N-D (QFN, 56-Leads, Body 8.00x8.00mm, Pitch 0.50mm, IPC Medium Density)
pins: 1 EECS (io), 2 VCORE_1 (power), 3 OSCI (in), 4 OSCO (out), 5 VPHY (power), 6 REF (in), 7 DM (io), 8 DP (io), 9 VPLL (power), 10 TEST, 11 RESET#, 12 ADBUS0 (io), 13 ADBUS1 (io), 14 ADBUS2 (io), 15 ADBUS3 (io), 16 VCCIO_1 (power), 17 ADBUS4 (io), 18 ADBUS5 (io), 19 ADBUS6 (io), 20 ADBUS7 (io), 21 GND (power), 22 BDBUS0 (io), 23 BDBUS1 (io), 24 BDBUS2 (io), 25 BDBUS3 (io), 26 BDBUS4 (io), 27 BDBUS5 (io), 28 BDBUS6 (io), 29 BDBUS7 (io), 30 SUSPEND# (out), 31 VCORE_2 (power), 32 CDBUS0 (io), 33 CDBUS1 (io), 34 CDBUS2 (io), 35 CDBUS3 (io), 36 VCCIO_2 (power), 37 CDBUS4 (io), 38 CDBUS5 (io), 39 CDBUS6 (io), 40 CDBUS7 (io), 41 GND (power), 42 DDBUS0 (io), 43 VREGOUT (power), 44 VREGIN (power), 45 GND (power), 46 DDBUS1 (io), 47 DDBUS2 (io), 48 DDBUS3 (io), 49 DDBUS4 (io), 50 VCCIO_3 (power), 51 DDBUS5 (io), 52 DDBUS6 (io), 53 DDBUS7 (io), 54 PWREN# (out), 55 EEDATA (io), 56 EECLK (out), 57 THERMAL_PAD

## GMK325BJ475MN-T
designator C?, comment 4.7 µF  (value not drawn)
CAP CER 4.7UF 35V X5R 1210; Part Number: GMK325BJ475MN-T; manufacturer: Taiyo Yuden; Tolerance: ±20%; Value: 4.7 µF; Applications: SMPS Filtering; Capacitance: 4.7 µF; componentlink1description: Datasheet; componentlink1url: https://www.yuden.co.jp/productdata/catalog/mlcc01_e.pdf; componentlink2description: DigiKey Link; componentlink2url: https://www.digikey.com/en/products/detail/taiyo-yuden/GMK325BJ475MN-T/1212781; Device Package: 1210 (3225 Metric); lastupdated: 19/09/2022 13:23:33; Lifecycle Status: Active; Minimum Order: 1; Mounting Type: Surface Mount, MLCC; Operating Temperature: -55°C ~ 85°C; Package / Case: 1210 (3225 Metric); packaging: TapeAndReel; partid: 24444; Part Status: Active; price: 0.11; series: M; Size / Dimension: 0.126" L x 0.098" W (3.20mm x 2.50mm); Supplier 1: DigiKey; Supplier Part Number 1: 587-1781-1-ND; Temperature Coefficient: X5R; Thickness (Max): 0.083" (2.10mm); Voltage - Rated: 35V
footprint CAP 1210_3225 - 1MM
pins: 1, 2

## GRM155R61A106ME11D
designator C?, comment 10 µF  (value not drawn)
CAP CER 10UF 10V X5R 0402; Part Number: GRM155R61A106ME11D; manufacturer: Murata Electronics; Tolerance: ±20%; Value: 10 µF; Applications: General Purpose; Capacitance: 10 µF; componentlink2description: DigiKey Link; componentlink2url: https://www.digikey.com/en/products/detail/murata-electronics/GRM155R61A106ME11D/12091056; Device Package: 0402 (1005 Metric); lastupdated: 19/09/2022 12:56:37; Lifecycle Status: Active; Minimum Order: 1; Mounting Type: Surface Mount, MLCC; Operating Temperature: -55°C ~ 85°C; Package / Case: 0402 (1005 Metric); packaging: TapeAndReel; partid: 45464; Part Status: Active; price: 0.02; series: GRM; Size / Dimension: 0.039" L x 0.020" W (1.00mm x 0.50mm); Supplier 1: DigiKey; Supplier Part Number 1: 490-GRM155R61A106ME11DCT-ND; Temperature Coefficient: X5R; Thickness (Max): 0.028" (0.70mm); Voltage - Rated: 10V
footprint CAP 0402_1005
pins: 1, 2

## GRM155R70J105KA12J
designator C?, comment 1 µF  (value not drawn)
CAP CER 1UF 6.3V X7R 0402; Part Number: GRM155R70J105KA12J; manufacturer: Murata Electronics; Tolerance: ±10%; Value: 1 µF; Applications: General Purpose; Capacitance: 1 µF; componentlink1description: Datasheet; componentlink1url: https://search.murata.co.jp/Ceramy/image/img/A01X/G101/ENG/GRM155R70J105KA12-01.pdf; componentlink2description: DigiKey Link; componentlink2url: https://www.digikey.com/en/products/detail/murata-electronics/GRM155R70J105KA12J/4905166; Device Package: 0402 (1005 Metric); lastupdated: 19/09/2022 12:57:31; Lifecycle Status: Active; Minimum Order: 1; Mounting Type: Surface Mount, MLCC; Operating Temperature: -55°C ~ 125°C; Package / Case: 0402 (1005 Metric); packaging: TapeAndReel; partid: 2890; Part Status: Active; price: 0.01; series: GRM; Size / Dimension: 0.039" L x 0.020" W (1.00mm x 0.50mm); Supplier 1: DigiKey; Supplier Part Number 1: 490-13339-1-ND; Temperature Coefficient: X7R; Thickness (Max): 0.022" (0.55mm); Voltage - Rated: 6.3V
footprint CAP 0402_1005
pins: 1, 2

## GRM155R72A472KA01D
designator C?, comment 4700 pF  (value not drawn)
CAP CER 4700PF 100V X7R 0402; Part Number: GRM155R72A472KA01D; manufacturer: Murata Electronics; Tolerance: ±10%; Value: 4700 pF; Applications: General Purpose; Capacitance: 4700 pF; componentlink1description: Datasheet; componentlink1url: https://www.murata.com/~/media/webrenewal/support/library/catalog/products/capacitor/mlcc/c02e.ashx?la=en-us; componentlink2description: DigiKey Link; componentlink2url: https://www.digikey.com/en/products/detail/murata-electronics/GRM155R72A472KA01D/965899; Device Package: 0402 (1005 Metric); lastupdated: 19/09/2022 12:57:33; Lifecycle Status: Active; Minimum Order: 1; Mounting Type: Surface Mount, MLCC; Operating Temperature: -55°C ~ 125°C; Package / Case: 0402 (1005 Metric); packaging: TapeAndReel; partid: 2046; Part Status: Active; price: 0.01; series: GRM; Size / Dimension: 0.039" L x 0.020" W (1.00mm x 0.50mm); Supplier 1: DigiKey; Supplier Part Number 1: 490-3885-1-ND; Temperature Coefficient: X7R; Thickness (Max): 0.022" (0.55mm); Voltage - Rated: 100V
footprint CAP 0402_1005
pins: 1, 2

## GRM0335C1H180JA01D
designator C?, comment 18 pF  (value not drawn)
CAP CER 18PF 50V C0G/NP0 0201; Part Number: GRM0335C1H180JA01D; manufacturer: Murata Electronics; Temperature Coefficient: C0G, NP0; Tolerance: ±5%; Value: 18 pF; Applications: General Purpose; Capacitance: 18 pF; componentlink1description: Datasheet; componentlink1url: https://search.murata.co.jp/Ceramy/image/img/A01X/G101/ENG/GRM0335C1H180JA01-01.pdf; componentlink2description: DigiKey Link; componentlink2url: https://www.digikey.com/en/products/detail/murata-electronics/GRM0335C1H180JA01D/2269170; Device Package: 0201 (0603 Metric); lastupdated: 19/09/2022 12:54:27; Lifecycle Status: Active; Minimum Order: 1; Mounting Type: Surface Mount; Operating Temperature: -55°C ~ 125°C; Package / Case: 0201 (0603 Metric); packaging: CutTape; partid: 881; Part Status: Active; price: 0.01; series: GRM; Size / Dimension: 0.024" L x 0.012" W (0.60mm x 0.30mm); Supplier 1: DigiKey; Supplier Part Number 1: 490-6117-1-ND; Thickness (Max): 0.013" (0.33mm); Voltage - Rated: 50V
footprint CAP 0201_0603
pins: 1, 2

## LSM0603453V
designator D?, comment Green
LED SM 0603 3V -/1000/-MCD GREEN; Part Number: LSM0603453V; Manufacturer: Visual Communications Company - VCC; Configuration: Standard; Current - Test: 20mA; Lens Color: Colorless; Lens Size: 1.20mm x 0.80mm; Lens Style: Rectangle with Flat Top; Lens Transparency: Clear; Millicandela Rating: 63mcd; Viewing Angle: 120°; Voltage - Forward (Vf) (Typ): 2V; Wavelength - Dominant: 572nm; Wavelength - Peak: 571nm; Color: Green; ComponentLink1Description: Datasheet; ComponentLink1URL: https://vcclite.com/wp-content/uploads/wpallimport/files/files/LSM0603453V.pdf; ComponentLink2Description: DigiKey Link; ComponentLink2URL: https://www.digikey.com/en/products/detail/visual-communications-company-vcc/LSM0603453V/9486724; Device Package: 0603 (1608 Metric); Height (Max): 0.65mm; LastUpdated: 19/09/2022 13:49:59; Lifecycle Status: Active; Minimum Order: 1; Mounting Type: Surface Mount; Package / Case: 0603 (1608 Metric); Packaging: TapeAndReel; PartId: 579; Part Status: Active; Price: 0.05; Series: LSM0603; Size / Dimension: 1.60mm L x 0.80mm W; Supplier 1: DigiKey; Supplier Part Number 1: LSM0603453VCT-ND; Supplier Device Package: Chip LED; Value: Green
footprint LED 0603_1608 GREEN
pins: 1, 2

## LTST-C193KRKT-2A
designator D?, comment Red
LED RED CLEAR CHIP SMD; Part Number: LTST-C193KRKT-2A; Manufacturer: Lite-On Inc.; Configuration: Standard; Current - Test: 2mA; Lens Color: Colorless; Lens Size: 1.15mm x 0.80mm; Lens Style: Rectangle with Flat Top; Millicandela Rating: 6.5mcd; Viewing Angle: 130°; Voltage - Forward (Vf) (Typ): 1.9V; Wavelength - Dominant: 629nm; Wavelength - Peak: 639nm; Color: Red; ComponentLink1Description: Datasheet; ComponentLink1URL: //media.digikey.com/pdf/Data%20Sheets/Lite-On%20PDFs/LTST-C193KRKT-2A.pdf; ComponentLink2Description: DigiKey Link; ComponentLink2URL: http://digikey.com/product-detail/en/lite-on-inc/LTST-C193KRKT-2A/160-1909-1-ND/3694456; Device Package: 0603 (1608 Metric); Height (Max): 0.35mm; LastUpdated: 19/09/2022 13:50:25; Lens Transparency: Clear; Lifecycle Status: Active; Minimum Order: 1; Mounting Type: Surface Mount; Package / Case: 0603 (1608 Metric); Packaging: TapeAndReel; PartId: 382; Part Status: Active; Price: 0.07; Series: -; Size / Dimension: 1.60mm L x 0.80mm W; Supplier 1: DigiKey; Supplier Part Number 1: 160-1909-1-ND; Supplier Device Package: Chip LED; Value: Red
footprint LED 0603_1608 RED
pins: 1, 2

## Net_Tie
designator NT?  (net tie, no BOM)
Net Tie
footprint Net_Tie 1X1 (Net Tie)
footprint Net_Tie 0.5X0.5 (Net Tie)
footprint Net_Tie 0.254X0.254 (Net Tie)
footprint Net_Tie 0.2X0.2 (Net Tie)
pins: 1, 2

## NX3225GA-12MHZ-STD-CRG-2
designator Y?, comment 12 MHz
CRYSTAL 12.0000MHZ 8PF SMD; Part Number: NX3225GA-12MHZ-STD-CRG-2; Manufacturer: NDK America, Inc.; ESR (Equivalent Series Resistance): 100 Ohms; Frequency Stability: ±30ppm; Frequency Tolerance: ±20ppm; Operating Mode: Fundamental; ComponentLink1Description: Datasheet; ComponentLink1URL: http://www.ndk.com/images/products/catalog/c_NX3225GA-STD-CRG-2_e.pdf; ComponentLink2Description: DigiKey Link; ComponentLink2URL: https://www.digikey.com/en/products/detail/ndk-america-inc/NX3225GA-12MHZ-STD-CRG-2/3125632; Frequency: 12 MHz; Height - Seated (Max): 0.035" (0.90mm); LastUpdated: 19/09/2022 13:51:54; Lifecycle Status: Active; Load Capacitance: 8pF; Minimum Order: 1; Mounting Type: Surface Mount; Operating Temperature: -40°C ~ 85°C; Package / Case: 4-SMD, No Lead; Packaging: TapeAndReel; PartId: 551; Part Status: Active; Price: 0.33; Series: NX3225GA; Size / Dimension: 0.126" L x 0.098" W (3.20mm x 2.50mm); Supplier 1: DigiKey; Supplier Part Number 1: 644-1173-1-ND; Type: MHz Crystal; Value: 12 MHz
footprint NDK NX3225GA
pins: 1, 2 GND, 3, 4 GND

## PMEG3030EP,115
designator D?
DIODE SCHOTTKY 30V 3A SOD128; Manufacturer: Nexperia USA Inc.; Capacitance @ Vr, F: 470pF @ 1V, 1MHz; Current - Reverse Leakage @ Vr: 5 mA @ 30 V; Speed: Fast Recovery =< 500ns, > 200mA (Io); Voltage - Forward (Vf) (Max) @ If: 360 mV @ 3 A; Part Number: PMEG3030EP,115; ComponentLink1Description: Datasheet; ComponentLink1URL: https://assets.nexperia.com/documents/data-sheet/PMEG3030EP.pdf; ComponentLink2Description: DigiKey Link; ComponentLink2URL: https://www.digikey.com/en/products/detail/nexperia-usa-inc/PMEG3030EP-115/2228693; Current - Average Rectified (Io): 3A; Diode Type: Schottky; LastUpdated: 19/09/2022 14:09:10; Lifecycle Status: Active; Minimum Order: 1; Mounting Type: Surface Mount; Operating Temperature - Junction: 150°C (Max); Package / Case: SOD-128; Packaging: TapeAndReel; PartId: 3379; Part Status: Active; Price: 0.16; Series: -; Supplier 1: DigiKey; Supplier Part Number 1: 1727-5324-1-ND; Supplier Device Package: SOD-128/CFP5; Voltage - DC Reverse (Vr) (Max): 30 V
footprint NEXPERIA SOD-128 CFP5
pins: 1, 2